# Altium footprint library PTA4543-2015DPB103.PcbLib: 1 footprints
Each footprint in its own frame and in the unit in brackets; x right, y up, seen from the top. Pads: shape width x height; smd on the part's side, far side on the other; paste and mask are expansions set on the pad; w line width, h text height; cw(c..) or ccw(c..) is an arc to the next point about the centre after c.
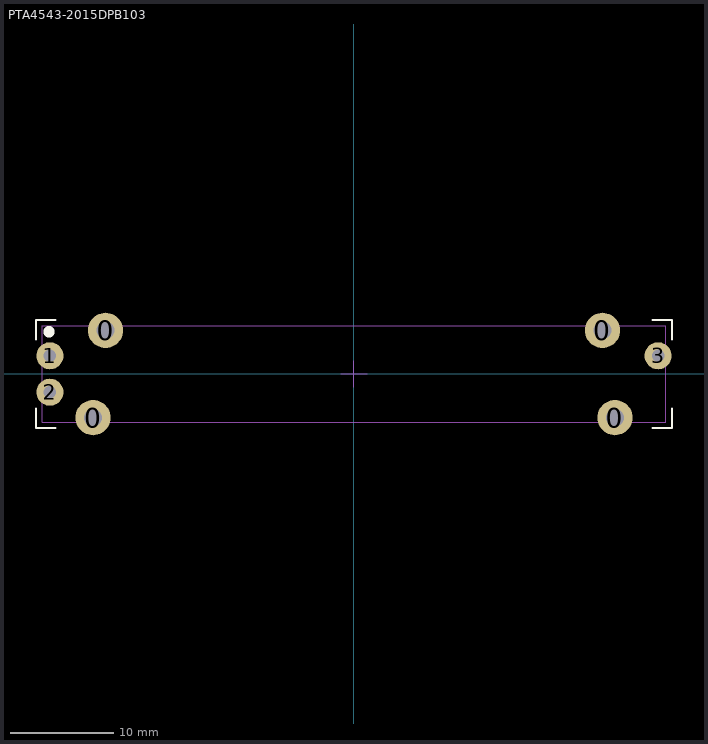
[diagram p0: the footprint, top view; thin cyan lines are the x and y axes]

## PTA4543-2015DPB103 [mm] "Potentiometer, Slide, 10 kohm, 250 mW, ± 20%, PTA Series, Linear"
height 6.5
pads (7):
  round 3.4 hole 1.7: 0(-25.1,-4.2) 0(-23.9,4.2) 0(23.9,4.2) 0(25.1,-4.2)
  round 2.6 hole 1.2: 1(-29.25,1.75) 2(-29.25,-1.75) 3(29.25,1.75)
Top Overlay:
  circle w1: c-29.337,4.064 r0.04
  lines w0.2: -30.607,-3.302 -30.607,-5.207 -28.702,-5.207 ; -30.607,3.302 -30.607,5.207 -28.702,5.207 ; 28.702,-5.207 30.607,-5.207 30.607,-3.302 ; 28.702,5.207 30.607,5.207 30.607,3.302
Mechanical 7:
  lines w0.1: -25.146,-4.2 -25.1,-4.2 ; -1.27,0 1.27,0 0,0 0,-1.27 0,1.27 ; -30,-4.65 -30,4.65 30,4.65 30,-4.65 -30,-4.65
Mechanical 13:
  lines w0.1: -25.146,-4.2 -25.1,-4.2 ; -30,-4.65 30,-4.65 30,4.65 -30,4.65 -30,-4.65
3D body "User Library-pta4543-2x15cpxxxx.step": height 21.5, standoff -3.5, extent -30,-4.65 30,4.65